# EAGLE library part HT12E (library Recon)
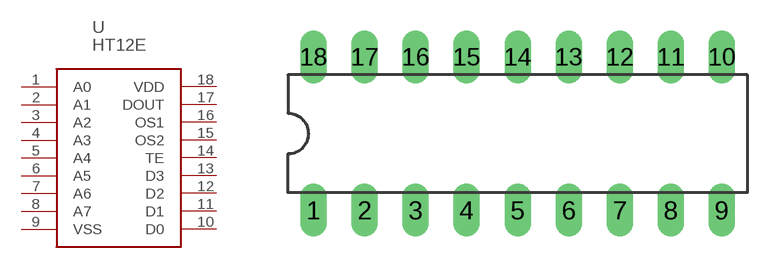
[diagram p4: symbol with the pads of DIL18; footprint DIL18]

Designator prefix -

## HT12E  [DIL18]
1  A0
2  A1
3  A2
4  A3
5  A4
6  A5
7  A6
8  A7
9  VSS  pwr
10  D0
11  D1
12  D2
13  D3
14  TE
15  OS2
16  OS1
17  DOUT
18  VDD  pwr

## Footprint DIL18 (pad centres in mm)
Dual In Line Package
drill 0.813 long: 1 -10.16,-3.81; 2 -7.62,-3.81; 3 -5.08,-3.81; 4 -2.54,-3.81; 5 0,-3.81; 6 2.54,-3.81; 7 5.08,-3.81; 8 7.62,-3.81; 9 10.16,-3.81; 10 10.16,3.81; 11 7.62,3.81; 12 5.08,3.81; 13 2.54,3.81; 14 0,3.81; 15 -2.54,3.81; 16 -5.08,3.81; 17 -7.62,3.81; 18 -10.16,3.81